# Altium footprint library STM32.PcbLib: 2 footprints
Each footprint in its own frame and in the unit in brackets; x right, y up, seen from the top. Pads: shape width x height; smd on the part's side, far side on the other; paste and mask are expansions set on the pad; w line width, h text height; cw(c..) or ccw(c..) is an arc to the next point about the centre after c.
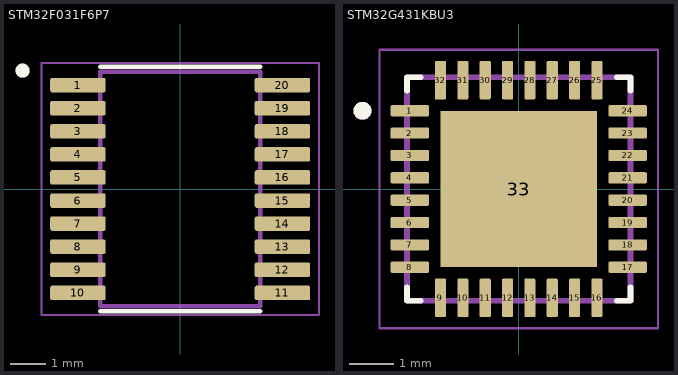
[diagram p0: the footprints below, top view; thin cyan lines are the x and y axes]

## STM32F031F6P7 [mm] "ARM Microcontrollers - MCU Entry-level ARM Cortex-M0 MCU"
pads (20):
  rrect25% 1.56x0.41 smd: 1(-2.88,2.925) 2(-2.88,2.275) 3(-2.88,1.625) 4(-2.88,0.975) 5(-2.88,0.325) 6(-2.88,-0.325) 7(-2.88,-0.975) 8(-2.88,-1.625) 9(-2.88,-2.275) 10(-2.88,-2.925) 11(2.88,-2.925) 12(2.88,-2.275) 13(2.88,-1.625) 14(2.88,-0.975) 15(2.88,-0.325) 16(2.88,0.325) 17(2.88,0.975) 18(2.88,1.625) 19(2.88,2.275) 20(2.88,2.925)
Top Overlay:
  circle w0.2: c-4.44,3.335 r0.1
  lines w0.127: -2.25,-3.45 2.25,-3.45 ; -2.25,3.45 2.25,3.45
Mechanical 13:
  circle w0.2: c-4.44,3.335 r0.1
  lines w0.127: -2.25,-3.3 2.25,-3.3 2.25,3.3 -2.25,3.3 -2.25,-3.3
Mechanical 15:
  lines w0.05: -3.91,-3.55 3.91,-3.55 3.91,3.55 -3.91,3.55 -3.91,-3.55
3D body "step_temp.STEP": height 1.22, standoff 0.02, extent -3.2,-3.25 3.2,3.25

## STM32G431KBU3 [mm] "ARM® Cortex®-M4F STM32G4 Microcontroller IC 32-Bit Single-Core 170MHz 128KB (128K x 8) FLASH 32-UFQFPN (5x5)"
pads (33):
  rrect25% 0.86x0.25 smd: 1(-2.435,1.75) 2(-2.435,1.25) 3(-2.435,0.75) 4(-2.435,0.25) 5(-2.435,-0.25) 6(-2.435,-0.75) 7(-2.435,-1.25) 8(-2.435,-1.75) 17(2.435,-1.75) 18(2.435,-1.25) 19(2.435,-0.75) 20(2.435,-0.25) 21(2.435,0.25) 22(2.435,0.75) 23(2.435,1.25) 24(2.435,1.75)
  rrect25% 0.25x0.86 smd: 9(-1.75,-2.435) 10(-1.25,-2.435) 11(-0.75,-2.435) 12(-0.25,-2.435) 13(0.25,-2.435) 14(0.75,-2.435) 15(1.25,-2.435) 16(1.75,-2.435) 25(1.75,2.435) 26(1.25,2.435) 27(0.75,2.435) 28(0.25,2.435) 29(-0.25,2.435) 30(-0.75,2.435) 31(-1.25,2.435) 32(-1.75,2.435)
  rect 3.5x3.5 smd paste-0.64: 33(0,0)
Top Overlay:
  circle w0.2: c-3.495,1.75 r0.1
  lines w0.127: -2.5,-2.195 -2.5,-2.5 -2.195,-2.5 ; -2.5,2.195 -2.5,2.5 -2.195,2.5 ; 2.195,-2.5 2.5,-2.5 2.5,-2.195 ; 2.195,2.5 2.5,2.5 2.5,2.195
Mechanical 13:
  circle w0.2: c-3.495,1.75 r0.1
  lines w0.127: -2.5,-2.5 2.5,-2.5 2.5,2.5 -2.5,2.5 -2.5,-2.5
Mechanical 15:
  lines w0.05: -3.115,-3.115 3.115,-3.115 3.115,3.115 -3.115,3.115 -3.115,-3.115
3D body "step_temp.STEP": height 0.6, standoff 0, extent -2.5,-2.5 2.5,2.5